# Altium schematic symbol library AD7172.Schlib: 1 symbol
Pins are listed as number, name and electrical type; pins without a type are passive.

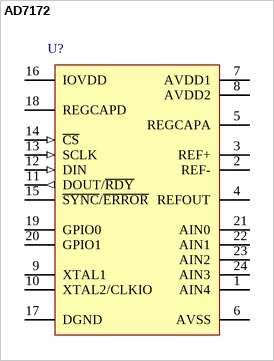
[diagram p0: symbol AD7172]

## AD7172
designator U?
ADC 24-bit 4-channel
pins: 1 AIN4, 2 REF-, 3 REF+, 4 REFOUT, 5 REGCAPA, 6 AVSS (power), 7 AVDD1 (power), 8 AVDD2 (power), 9 XTAL1, 10 XTAL2/CLKIO, 11 DOUT/~{RDY} (out), 12 DIN (in), 13 SCLK (in), 14 ~{CS} (in), 15 ~{SYNC}/~{ERROR}, 16 IOVDD (power), 17 DGND (power), 18 REGCAPD, 19 GPIO0, 20 GPIO1, 21 AIN0, 22 AIN1, 23 AIN2, 24 AIN3